# EAGLE library part CDCE925_PW_16 (library CDCE925_PW_16)
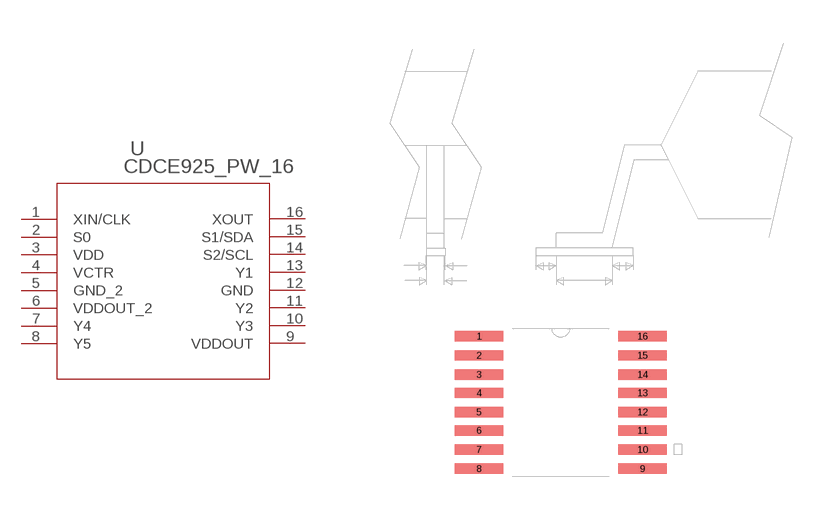
[diagram p0: symbol with the pads of PW16; footprint PW16]

Designator prefix U

## CDCE925_PW_16 (DATASHEETURL: http://www.ti.com/lit/gpn/CDCE925; DESCRIPTION: Programmable 2-PLL VCXO Clock Synthesizer with 2.5-V or 3.3-V LVCMOS Outputs; FAMILY_NAME: VCXO INPUT; GENERIC_PART_NUMBER: CDCE925; INDUSTRY_STD_PKG_TYPE: TSSOP; MANUFACTURER: Texas Instruments; PACKAGE_DESIGNATOR: PW; PIN_COUNT: 16)  [PW16]
1  XIN/CLK  in
2  S0  in
3  VDD  pwr
4  VCTR  in
5  GND_2  pwr
6  VDDOUT_2  pwr
7  Y4  out
8  Y5  out
9  VDDOUT  pwr
10  Y3  out
11  Y2  out
12  GND  pwr
13  Y1  out
14  S2/SCL  in
15  S1/SDA
16  XOUT  out

## Footprint PW16 (pad centres in mm)
smd 1.676 x 0.356: 1 -2.819,2.286; 2 -2.819,1.626; 3 -2.819,0.965; 4 -2.819,0.33; 5 -2.819,-0.33; 6 -2.819,-0.965; 7 -2.819,-1.626; 8 -2.819,-2.286; 9 2.819,-2.286; 10 2.819,-1.626; 11 2.819,-0.965; 12 2.819,-0.33; 13 2.819,0.33; 14 2.819,0.965; 15 2.819,1.626; 16 2.819,2.286